# Altium schematic symbol library DMN65D8L.Schlib: 1 symbol
Pins are listed as number, name and electrical type; pins without a type are passive.

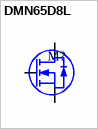
[diagram p0: symbol DMN65D8L]

## DMN65D8L
designator M?
60V 310mA N-Channel
pins: 1 G, 2 S, 3 D